# Altium footprint library base-32-bit.PcbLib: 31 footprints (part 2 of 2)
Each footprint in its own frame and in the unit in brackets; x right, y up, seen from the top. Pads: shape width x height; smd on the part's side, far side on the other; paste and mask are expansions set on the pad; w line width, h text height; cw(c..) or ccw(c..) is an arc to the next point about the centre after c.
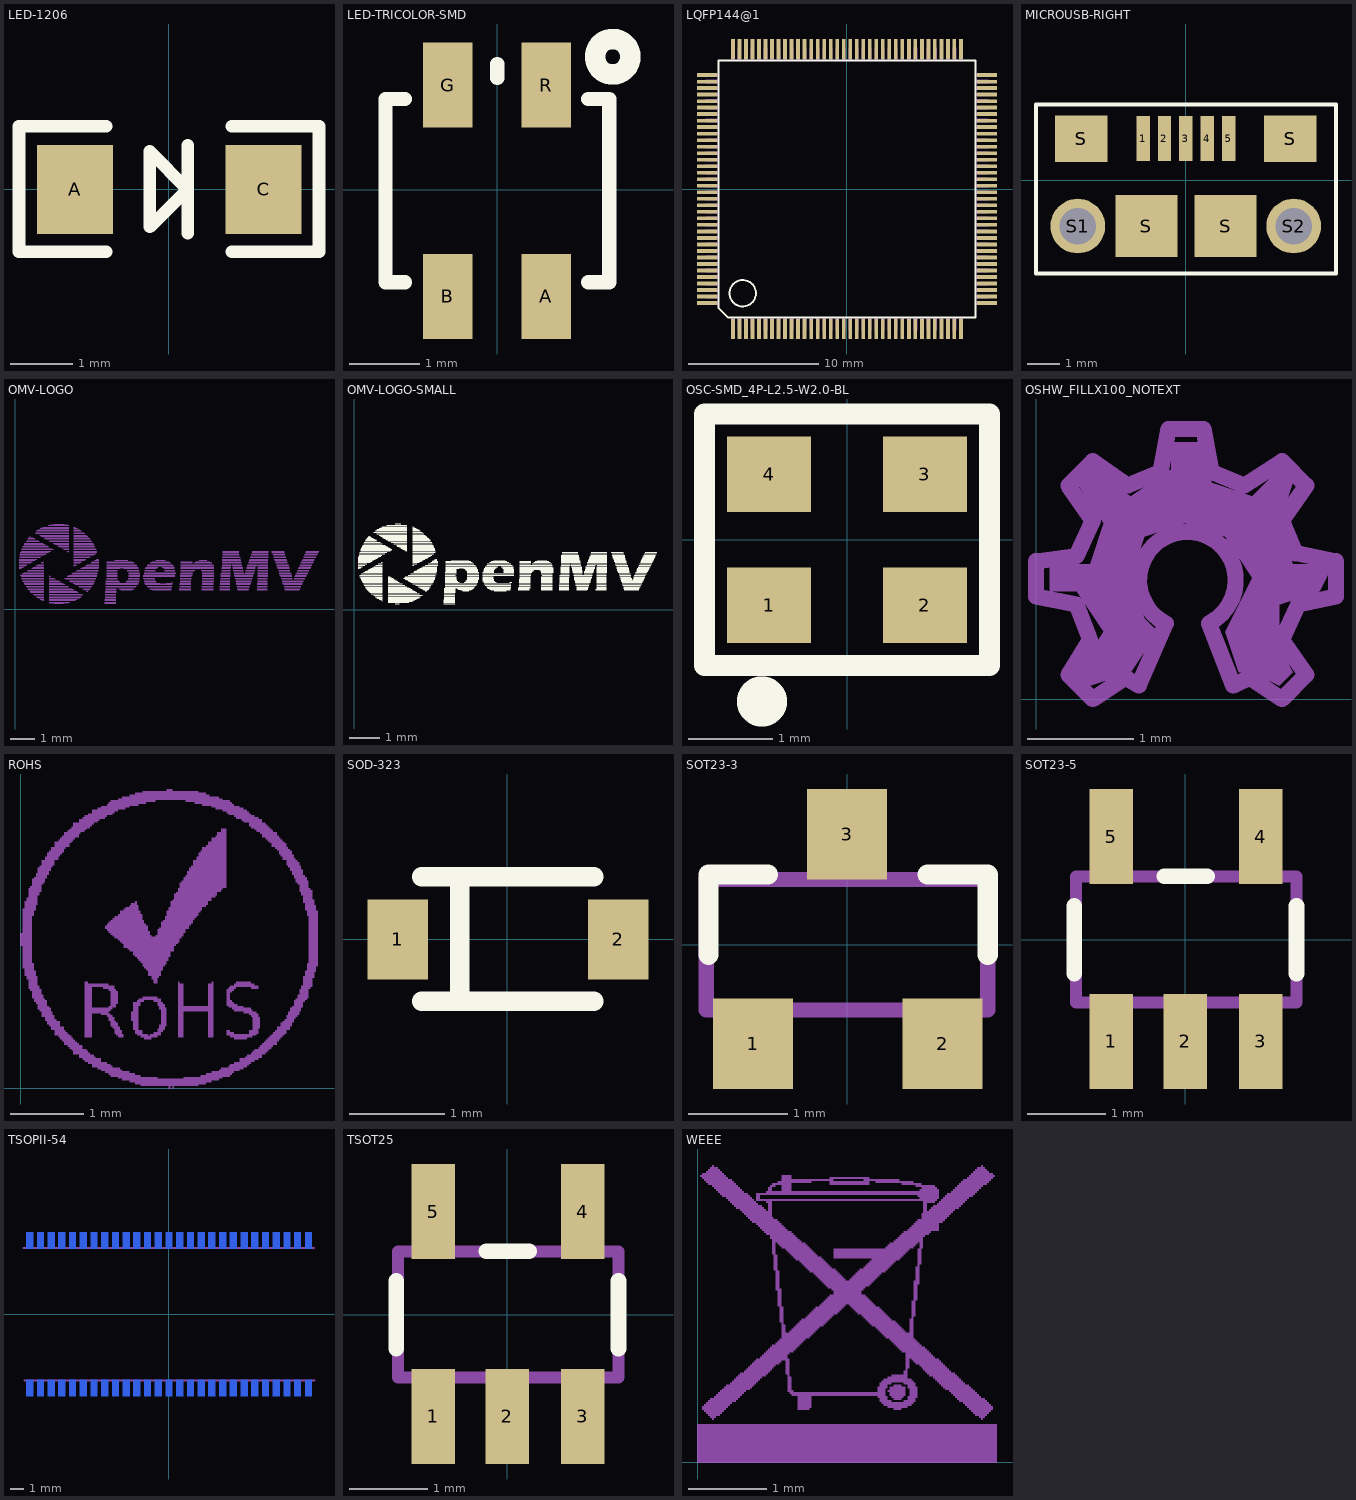
[diagram p1: the footprints below, top view; thin cyan lines are the x and y axes]

## LED-1206 [mil] "LED-1206"
pads (2):
  rect 48x56 smd: A(-59.06,0) C(60,0)
Top Overlay:
  lines w8: -39.37,-39.37 -94.49,-39.37 -94.49,40 -39.37,40 ; 12,-27.56 12,0 ; 12,28 12,0 ; 40,-39.37 95,-39.37 95,40 40,40 ; 12,0 -11.81,-23.62 -11.81,24 12,0

## LED-TRICOLOR-SMD [mil] "LED-TRICOLOR-SMD"
pads (4):
  rect 28x48 smd: A(27.56,-60) B(-28,-60) G(-28,59.06) R(27.56,59.06)
Top Overlay:
  circle w11.55: c65,75 r10
  lines w8: -52,-52 -63,-52 -63,51.18 -52,51.18 ; 0,62.99 0,70.87 ; 51.18,-52 62.99,-52 62.99,51.18 51.18,51.18

## LQFP144@1 [mil] "LQFP144@1"
pads (144):
  rect 11x60 smd: 1(-344.49,-423.23) 2(-324.8,-423.23) 3(-305.12,-423.23) 4(-285.43,-423.23) 5(-265.75,-423.23) 6(-246.06,-423.23) 7(-226.38,-423.23) 8(-206.69,-423.23) 9(-187.01,-423.23) 10(-167.32,-423.23) 11(-147.64,-423.23) 12(-127.95,-423.23) 13(-108.27,-423.23) 14(-88.58,-423.23) 15(-68.9,-423.23) 16(-49.21,-423.23) 17(-29.53,-423.23) 18(-9.84,-423.23) 19(10,-423.23) 20(30,-423.23) 21(50,-423.23) 22(69,-423.23) 23(89,-423.23) 24(109,-423.23) 25(128,-423.23) 26(148,-423.23) 27(168,-423.23) 28(188,-423.23) 29(207,-423.23) 30(227,-423.23) 31(247,-423.23) 32(266,-423.23) 33(286,-423.23) 34(306,-423.23) 35(325,-423.23) 36(345,-423.23) 73(345,424) 74(325,424) 75(306,424) 76(286,424) 77(266,424) 78(247,424) 79(227,424) 80(207,424) 81(188,424) 82(168,424) 83(148,424) 84(128,424) 85(109,424) 86(89,424) 87(69,424) 88(50,424) 89(30,424) 90(10,424) 91(-9.84,424) 92(-29.53,424) 93(-49.21,424) 94(-68.9,424) 95(-88.58,424) 96(-108.27,424) 97(-127.95,424) 98(-147.64,424) 99(-167.32,424) 100(-187.01,424) 101(-206.69,424) 102(-226.38,424) 103(-246.06,424) 104(-265.75,424) 105(-285.43,424) 106(-305.12,424) 107(-324.8,424) 108(-344.49,424)
  rect 60x11 smd: 37(424,-344.49) 38(424,-324.8) 39(424,-305.12) 40(424,-285.43) 41(424,-265.75) 42(424,-246.06) 43(424,-226.38) 44(424,-206.69) 45(424,-187.01) 46(424,-167.32) 47(424,-147.64) 48(424,-127.95) 49(424,-108.27) 50(424,-88.58) 51(424,-68.9) 52(424,-49.21) 53(424,-29.53) 54(424,-9.84) 55(424,10) 56(424,30) 57(424,50) 58(424,69) 59(424,89) 60(424,109) 61(424,128) 62(424,148) 63(424,168) 64(424,188) 65(424,207) 66(424,227) 67(424,247) 68(424,266) 69(424,286) 70(424,306) 71(424,325) 72(424,345) 109(-423.23,345) 110(-423.23,325) 111(-423.23,306) 112(-423.23,286) 113(-423.23,266) 114(-423.23,247) 115(-423.23,227) 116(-423.23,207) 117(-423.23,188) 118(-423.23,168) 119(-423.23,148) 120(-423.23,128) 121(-423.23,109) 122(-423.23,89) 123(-423.23,69) 124(-423.23,50) 125(-423.23,30) 126(-423.23,10) 127(-423.23,-9.84) 128(-423.23,-29.53) 129(-423.23,-49.21) 130(-423.23,-68.9) 131(-423.23,-88.58) 132(-423.23,-108.27) 133(-423.23,-127.95) 134(-423.23,-147.64) 135(-423.23,-167.32) 136(-423.23,-187.01) 137(-423.23,-206.69) 138(-423.23,-226.38) 139(-423.23,-246.06) 140(-423.23,-265.75) 141(-423.23,-285.43) 142(-423.23,-305.12) 143(-423.23,-324.8) 144(-423.23,-344.49)
Top Overlay:
  circle w6: c-314.96,-314.96 r40
  lines w6: -388.7,-359.17 -359.17,-388.7 389,-388.7 389,389 -388.7,389 -388.7,-359.17
Mechanical 16:
  rectangle: -349.8,389 -339.17,429
  rectangle: -330.12,389 -319.49,429
  rectangle: -310.43,389 -299.8,429
  rectangle: -290.75,389 -280.12,429
  rectangle: -271.06,389 -260.43,429
  rectangle: -251.38,389 -240.75,429
  rectangle: -231.69,389 -221.06,429
  rectangle: -212.01,389 -201.38,429
  rectangle: -192.32,389 -181.69,429
  rectangle: -172.64,389 -162.01,429
  rectangle: -152.95,389 -142.32,429
  rectangle: -133.27,389 -122.64,429
  rectangle: -113.58,389 -102.95,429
  rectangle: -93.9,389 -83.27,429
  rectangle: -74.21,389 -63.58,429
  rectangle: -54.53,389 -43.9,429
  rectangle: -34.84,389 -24.21,429
  rectangle: -15.16,389 -4.53,429
  rectangle: 5,389 16,429
  rectangle: 25,389 35,429
  rectangle: 44,389 55,429
  rectangle: 64,389 75,429
  rectangle: 84,389 94,429
  rectangle: 103,389 114,429
  rectangle: 123,389 134,429
  rectangle: 143,389 153,429
  rectangle: 163,389 173,429
  rectangle: 182,389 193,429
  rectangle: 202,389 213,429
  rectangle: 222,389 232,429
  rectangle: 241,389 252,429
  rectangle: 261,389 272,429
  rectangle: 281,389 291,429
  rectangle: 300,389 311,429
  rectangle: 320,389 331,429
  rectangle: 340,389 350,429
  rectangle: -349.8,-428.17 -339.17,-388.7
  rectangle: -330.12,-428.17 -319.49,-388.7
  rectangle: -310.43,-428.17 -299.8,-388.7
  rectangle: -290.75,-428.17 -280.12,-388.7
  rectangle: -271.06,-428.17 -260.43,-388.7
  rectangle: -251.38,-428.17 -240.75,-388.7
  rectangle: -231.69,-428.17 -221.06,-388.7
  rectangle: -212.01,-428.17 -201.38,-388.7
  rectangle: -192.32,-428.17 -181.69,-388.7
  rectangle: -172.64,-428.17 -162.01,-388.7
  rectangle: -152.95,-428.17 -142.32,-388.7
  rectangle: -133.27,-428.17 -122.64,-388.7
  rectangle: -113.58,-428.17 -102.95,-388.7
  rectangle: -93.9,-428.17 -83.27,-388.7
  rectangle: -74.21,-428.17 -63.58,-388.7
  rectangle: -54.53,-428.17 -43.9,-388.7
  rectangle: -34.84,-428.17 -24.21,-388.7
  rectangle: -15.16,-428.17 -4.53,-388.7
  rectangle: 5,-428.17 16,-388.7
  rectangle: 25,-428.17 35,-388.7
  rectangle: 44,-428.17 55,-388.7
  rectangle: 64,-428.17 75,-388.7
  rectangle: 84,-428.17 94,-388.7
  rectangle: 103,-428.17 114,-388.7
  rectangle: 123,-428.17 134,-388.7
  rectangle: 143,-428.17 153,-388.7
  rectangle: 163,-428.17 173,-388.7
  rectangle: 182,-428.17 193,-388.7
  rectangle: 202,-428.17 213,-388.7
  rectangle: 222,-428.17 232,-388.7
  rectangle: 241,-428.17 252,-388.7
  rectangle: 261,-428.17 272,-388.7
  rectangle: 281,-428.17 291,-388.7
  rectangle: 300,-428.17 311,-388.7
  rectangle: 320,-428.17 331,-388.7
  rectangle: 340,-428.17 350,-388.7
  rectangle: 389,-349.8 429,-339.17
  rectangle: 389,-330.12 429,-319.49
  rectangle: 389,-310.43 429,-299.8
  rectangle: 389,-290.75 429,-280.12
  rectangle: 389,-271.06 429,-260.43
  rectangle: 389,-251.38 429,-240.75
  rectangle: 389,-231.69 429,-221.06
  rectangle: 389,-212.01 429,-201.38
  rectangle: 389,-192.32 429,-181.69
  rectangle: 389,-172.64 429,-162.01
  rectangle: 389,-152.95 429,-142.32
  rectangle: 389,-133.27 429,-122.64
  rectangle: 389,-113.58 429,-102.95
  rectangle: 389,-93.9 429,-83.27
  rectangle: 389,-74.21 429,-63.58
  rectangle: 389,-54.53 429,-43.9
  rectangle: 389,-34.84 429,-24.21
  rectangle: 389,-15.16 429,-4.53
  rectangle: 389,5 429,16
  rectangle: 389,25 429,35
  rectangle: 389,44 429,55
  rectangle: 389,64 429,75
  rectangle: 389,84 429,94
  rectangle: 389,103 429,114
  rectangle: 389,123 429,134
  rectangle: 389,143 429,153
  rectangle: 389,163 429,173
  rectangle: 389,182 429,193
  rectangle: 389,202 429,213
  rectangle: 389,222 429,232
  rectangle: 389,241 429,252
  rectangle: 389,261 429,272
  rectangle: 389,281 429,291
  rectangle: 389,300 429,311
  rectangle: 389,320 429,331
  rectangle: 389,340 429,350
  rectangle: -428.07,-349.8 -388.6,-339.17
  rectangle: -428.07,-330.12 -388.6,-319.49
  rectangle: -428.07,-310.43 -388.6,-299.8
  rectangle: -428.07,-290.75 -388.6,-280.12
  rectangle: -428.07,-271.06 -388.6,-260.43
  rectangle: -428.07,-251.38 -388.6,-240.75
  rectangle: -428.07,-231.69 -388.6,-221.06
  rectangle: -428.07,-212.01 -388.6,-201.38
  rectangle: -428.07,-192.32 -388.6,-181.69
  rectangle: -428.07,-172.64 -388.6,-162.01
  rectangle: -428.07,-152.95 -388.6,-142.32
  rectangle: -428.07,-133.27 -388.6,-122.64
  rectangle: -428.07,-113.58 -388.6,-102.95
  rectangle: -428.07,-93.9 -388.6,-83.27
  rectangle: -428.07,-74.21 -388.6,-63.58
  rectangle: -428.07,-54.53 -388.6,-43.9
  rectangle: -428.07,-34.84 -388.6,-24.21
  rectangle: -428.07,-15.16 -388.6,-4.53
  rectangle: -428.07,5 -388.6,16
  rectangle: -428.07,25 -388.6,35
  rectangle: -428.07,44 -388.6,55
  rectangle: -428.07,64 -388.6,75
  rectangle: -428.07,84 -388.6,94
  rectangle: -428.07,103 -388.6,114
  rectangle: -428.07,123 -388.6,134
  rectangle: -428.07,143 -388.6,153
  rectangle: -428.07,163 -388.6,173
  rectangle: -428.07,182 -388.6,193
  rectangle: -428.07,202 -388.6,213
  rectangle: -428.07,222 -388.6,232
  rectangle: -428.07,241 -388.6,252
  rectangle: -428.07,261 -388.6,272
  rectangle: -428.07,281 -388.6,291
  rectangle: -428.07,300 -388.6,311
  rectangle: -428.07,320 -388.6,331
  rectangle: -428.07,340 -388.6,350

## MICROUSB-RIGHT [mil] "MICROUSB-RIGHT"
pads (11):
  rect 16x54 smd: 1(-51.18,50) 2(-25.59,50) 3(0,50) 4(26,50) 5(52,50)
  rect 63x56 smd: S(-125.98,50) S(126,50)
  rect 75x75 smd: S(-47.24,-55.31) S(48,-55.31)
  round 66 hole 44: S1(-129.92,-55.31) S2(130,-55.31)
Top Overlay:
  lines w5: -180.31,-112.4 -180.31,91 181,91 181,-112.4 -180.31,-112.4

## OMV-LOGO [mil] "OMV-LOGO"
Bottom Overlay:
  drawing of 881 lines, arcs and shapes, not listed

## OMV-LOGO-SMALL [mil] "OMV-LOGO-SMALL"
Top Overlay:
  drawing of 701 lines, arcs and shapes, not listed

## OSC-SMD_4P-L2.5-W2.0-BL [mm]
pads (4):
  rect 1x0.9 smd: 1(-0.93,-0.78) 2(0.93,-0.78) 3(0.93,0.78) 4(-0.93,0.78)
Top Overlay:
  lines w0.254: -1.7,-1.5 -1.7,1.5 1.7,1.5 1.7,-1.5 -1.7,-1.5
  lines w0.3: -1.016,-1.778 ccw(c-1.015,-1.928) -1.013,-1.778

## OSHW_FILLX100_NOTEXT [mil] "OSHW_FILLX100_NOTEXT"
Bottom Overlay:
  region: 35,10 20,5 15,10 25,25 15,40 5,40 5,50 20,50 25,65 15,80 20,85 35,75 50,85 50,95 60,95 65,80 80,75 90,85 95,80 90,65 95,50 110,50 105,40 90,35 90,20 95,10 90,5 80,10 75,10 70,25 80,45 70,60 55,65 40,60 35,45 40,30 45,25
  lines w6: 0,38 0,51 15,53 21,66 12,79 21,88 34,79 46,84 49,100 62,100 65,84 77,79 91,88 100,79 91,66 96,54 111,51 111,38 97,35 91,22 100,9 91,0 79,8 73,5 64,28 ccw(c56,44) 48,28 38,5 33,8 21,0 12,9 20,22 15,35 0,38

## ROHS [mil] "ROHS"
Bottom Overlay:
  drawing of 599 lines, arcs and shapes, not listed

## SOD-323 [mil] "SOD-323"
pads (2):
  rect 25x33 smd: 1(-45.28,0) 2(46,0)
Top Overlay:
  lines w8: -35.43,-25.59 -19.68,-25.59 ; -35.43,26 -19.68,26 ; 36,-25.59 -19.68,-25.59 ; 36,26 -19.68,26 ; -19.68,-25.59 -19.68,26

## SOT23-3 [mil] "SOT23-3"
pads (3):
  rect 32x36 smd: 1(-37.4,-39.37) 2(38,-39.37) 3(0,44)
Top Overlay:
  lines w8: -55.12,-3.94 -55.12,28 -31.5,28 ; 32,28 56,28 56,-3.94
Mechanical 16:
  lines w6: -56,-26 56,-26 56,26 -56,26 -56,-26

## SOT23-5 [mil] "SOT23-5"
pads (5):
  rect 22x48 smd: 1(-37.4,-51.19) 2(0,-51.19) 3(38,-51.19) 4(38,52) 5(-37.4,52)
Top Overlay:
  lines w8: -56,-16.91 -56,17 ; -10.57,32 11,32 ; 56,-16.91 56,17
Mechanical 16:
  rectangle: -47.24,-59.06 -27.56,-33.46
  rectangle: -9.84,-59.06 10,-33.46
  rectangle: 28,-59.06 48,-33.46
  rectangle: 28,34 48,60
  rectangle: -47.24,34 -27.56,60
  lines w6: -55.12,-31.5 56,-31.5 56,32 -55.12,32 -55.12,-31.5

## TSOPII-54 [mil] "TSOPII-54"
pads (54):
  rect 20x48 smd far side: 1(-409.45,-216.62) 2(-377.95,-216.62) 3(-346.46,-216.62) 4(-314.96,-216.62) 5(-283.46,-216.62) 6(-251.97,-216.62) 7(-220.47,-216.62) 8(-188.98,-216.62) 9(-157.48,-216.62) 10(-125.98,-216.62) 11(-94.49,-216.62) 12(-62.99,-216.62) 13(-31.5,-216.62) 14(0,-216.62) 15(32,-216.62) 16(63,-216.62) 17(95,-216.62) 18(126,-216.62) 19(158,-216.62) 20(189,-216.62) 21(221,-216.62) 22(252,-216.62) 23(284,-216.62) 24(315,-216.62) 25(347,-216.62) 26(378,-216.62) 27(410,-216.62) 28(410,217) 29(378,217) 30(347,217) 31(315,217) 32(284,217) 33(252,217) 34(221,217) 35(189,217) 36(158,217) 37(126,217) 38(95,217) 39(63,217) 40(32,217) 41(0,217) 42(-31.5,217) 43(-62.99,217) 44(-94.49,217) 45(-125.98,217) 46(-157.48,217) 47(-188.98,217) 48(-220.47,217) 49(-251.97,217) 50(-283.46,217) 51(-314.96,217) 52(-346.46,217) 53(-377.95,217) 54(-409.45,217)
Bottom Overlay:
  circle w6: c-396.26,-154.92 r21
  lines w6: -428.15,195 -440.94,195 -440.94,-194.88 -425.2,-194.88 ; 426,195 441,195 441,-194.88 428,-194.88
Top Paste:
  rectangle: -418.31,-238.19 -400.59,-193.9
  rectangle: -386.81,-238.19 -369.09,-193.9
  rectangle: -355.31,-238.19 -337.6,-193.9
  rectangle: -323.82,-238.19 -306.1,-193.9
  rectangle: -292.32,-238.19 -274.61,-193.9
  rectangle: -260.83,-238.19 -243.11,-193.9
  rectangle: -229.33,-238.19 -211.61,-193.9
  rectangle: -197.83,-238.19 -180.12,-193.9
  rectangle: -166.34,-238.19 -148.62,-193.9
  rectangle: -134.84,-238.19 -117.13,-193.9
  rectangle: -103.35,-238.19 -85.63,-193.9
  rectangle: -71.85,-238.19 -54.13,-193.9
  rectangle: -40.35,-238.19 -22.64,-193.9
  rectangle: -8.86,-238.19 9,-193.9
  rectangle: 23,-238.19 41,-193.9
  rectangle: 55,-238.19 72,-193.9
  rectangle: 86,-238.19 104,-193.9
  rectangle: 118,-238.19 135,-193.9
  rectangle: 149,-238.19 167,-193.9
  rectangle: 181,-238.19 198,-193.9
  rectangle: 212,-238.19 230,-193.9
  rectangle: 244,-238.19 261,-193.9
  rectangle: 275,-238.19 293,-193.9
  rectangle: 307,-238.19 324,-193.9
  rectangle: 338,-238.19 356,-193.9
  rectangle: 370,-238.19 387,-193.9
  rectangle: 401,-238.19 419,-193.9
  region: 419,239 401,239 401,194 419,194
  region: 387,239 370,239 370,194 387,194
  region: 356,239 338,239 338,194 356,194
  region: 324,239 307,239 307,194 324,194
  region: 293,239 275,239 275,194 293,194
  region: 261,239 244,239 244,194 261,194
  region: 230,239 212,239 212,194 230,194
  region: 198,239 181,239 181,194 198,194
  region: 167,239 149,239 149,194 167,194
  region: 135,239 118,239 118,194 135,194
  region: 104,239 86,239 86,194 104,194
  region: 72,239 55,239 55,194 72,194
  region: 41,239 23,239 23,194 41,194
  region: 9,239 -8.86,239 -8.86,194 9,194
  region: -22.64,239 -40.35,239 -40.35,194 -22.64,194
  region: -54.13,239 -71.85,239 -71.85,194 -54.13,194
  region: -85.64,239 -103.36,239 -103.36,194 -85.64,194
  region: -117.13,239 -134.84,239 -134.84,194 -117.13,194
  region: -148.62,239 -166.34,239 -166.34,194 -148.62,194
  region: -180.12,239 -197.83,239 -197.83,194 -180.12,194
  region: -211.61,239 -229.33,239 -229.33,194 -211.61,194
  region: -243.11,239 -260.83,239 -260.83,194 -243.11,194
  region: -274.61,239 -292.32,239 -292.32,194 -274.61,194
  region: -306.1,239 -323.82,239 -323.82,194 -306.1,194
  region: -337.6,239 -355.31,239 -355.31,194 -337.6,194
  region: -369.09,239 -386.81,239 -386.81,194 -369.09,194
  region: -400.59,239 -418.31,239 -418.31,194 -400.59,194
Top Solder:
  rectangle: -422.24,-243.11 -396.65,-190.94
  rectangle: -390.75,-243.11 -365.16,-190.94
  rectangle: -359.25,-243.11 -333.66,-190.94
  rectangle: -327.76,-243.11 -302.17,-190.94
  rectangle: -296.26,-243.11 -270.67,-190.94
  rectangle: -264.76,-243.11 -239.17,-190.94
  rectangle: -233.27,-243.11 -207.68,-190.94
  rectangle: -201.77,-243.11 -176.18,-190.94
  rectangle: -170.28,-243.11 -144.68,-190.94
  rectangle: -138.78,-243.11 -113.19,-190.94
  rectangle: -107.28,-243.11 -81.69,-190.94
  rectangle: -75.79,-243.11 -50.2,-190.94
  rectangle: -44.29,-243.11 -18.7,-190.94
  rectangle: -12.8,-243.11 13,-190.94
  rectangle: 19,-243.11 45,-190.94
  rectangle: 51,-243.11 76,-190.94
  rectangle: 82,-243.11 108,-190.94
  rectangle: 114,-243.11 139,-190.94
  rectangle: 145,-243.11 171,-190.94
  rectangle: 177,-243.11 202,-190.94
  rectangle: 208,-243.11 234,-190.94
  rectangle: 240,-243.11 265,-190.94
  rectangle: 271,-243.11 297,-190.94
  rectangle: 303,-243.11 328,-190.94
  rectangle: 334,-243.11 360,-190.94
  rectangle: 366,-243.11 391,-190.94
  rectangle: 397,-243.11 423,-190.94
  region: 423,244 397,244 397,191 423,191
  region: 391,244 366,244 366,191 391,191
  region: 360,244 334,244 334,191 360,191
  region: 328,244 303,244 303,191 328,191
  region: 297,244 271,244 271,191 297,191
  region: 265,244 240,244 240,191 265,191
  region: 234,244 208,244 208,191 234,191
  region: 202,244 177,244 177,191 202,191
  region: 171,244 145,244 145,191 171,191
  region: 139,244 114,244 114,191 139,191
  region: 108,244 82,244 82,191 108,191
  region: 76,244 51,244 51,191 76,191
  region: 45,244 19,244 19,191 45,191
  region: 13,244 -12.8,244 -12.8,191 13,191
  region: -18.7,244 -44.29,244 -44.29,191 -18.7,191
  region: -50.2,244 -75.79,244 -75.79,191 -50.2,191
  region: -81.7,244 -107.29,244 -107.29,191 -81.7,191
  region: -113.19,244 -138.78,244 -138.78,191 -113.19,191
  region: -144.69,244 -170.28,244 -170.28,191 -144.69,191
  region: -176.19,244 -201.78,244 -201.78,191 -176.19,191
  region: -207.68,244 -233.27,244 -233.27,191 -207.68,191
  region: -239.17,244 -264.76,244 -264.76,191 -239.17,191
  region: -270.67,244 -296.26,244 -296.26,191 -270.67,191
  region: -302.17,244 -327.76,244 -327.76,191 -302.17,191
  region: -333.66,244 -359.25,244 -359.25,191 -333.66,191
  region: -365.16,244 -390.75,244 -390.75,191 -365.16,191
  region: -396.66,244 -422.25,244 -422.25,191 -396.66,191
Mechanical 16:
  rectangle: -418.31,-230.83 -400.59,-195.87
  rectangle: -386.81,-230.83 -369.09,-195.87
  rectangle: -355.31,-230.83 -337.6,-195.87
  rectangle: -323.82,-230.83 -306.1,-195.87
  rectangle: -292.32,-230.83 -274.61,-195.87
  rectangle: -260.83,-230.83 -243.11,-195.87
  rectangle: -229.33,-230.83 -211.61,-195.87
  rectangle: -197.83,-230.83 -180.12,-195.87
  rectangle: -166.34,-230.83 -148.62,-195.87
  rectangle: -134.84,-230.83 -117.13,-195.87
  rectangle: -103.35,-230.83 -85.63,-195.87
  rectangle: -71.85,-230.83 -54.13,-195.87
  rectangle: -40.35,-230.83 -22.64,-195.87
  rectangle: -8.86,-230.83 9,-195.87
  rectangle: 23,-230.83 41,-195.87
  rectangle: 55,-230.83 72,-195.87
  rectangle: 86,-230.83 104,-195.87
  rectangle: 118,-230.83 135,-195.87
  rectangle: 149,-230.83 167,-195.87
  rectangle: 181,-230.83 198,-195.87
  rectangle: 212,-230.83 230,-195.87
  rectangle: 244,-230.83 261,-195.87
  rectangle: 275,-230.83 293,-195.87
  rectangle: 307,-230.83 324,-195.87
  rectangle: 338,-230.83 356,-195.87
  rectangle: 370,-230.83 387,-195.87
  rectangle: 401,-230.83 419,-195.87
  region: 419,231 401,231 401,196 419,196
  region: 387,231 370,231 370,196 387,196
  region: 356,231 338,231 338,196 356,196
  region: 324,231 307,231 307,196 324,196
  region: 293,231 275,231 275,196 293,196
  region: 261,231 244,231 244,196 261,196
  region: 230,231 212,231 212,196 230,196
  region: 198,231 181,231 181,196 198,196
  region: 167,231 149,231 149,196 167,196
  region: 135,231 118,231 118,196 135,196
  region: 104,231 86,231 86,196 104,196
  region: 72,231 55,231 55,196 72,196
  region: 41,231 23,231 23,196 41,196
  region: 9,231 -8.86,231 -8.86,196 9,196
  region: -22.64,231 -40.35,231 -40.35,196 -22.64,196
  region: -54.13,231 -71.85,231 -71.85,196 -54.13,196
  region: -85.64,231 -103.36,231 -103.36,196 -85.64,196
  region: -117.13,231 -134.84,231 -134.84,196 -117.13,196
  region: -148.62,231 -166.34,231 -166.34,196 -148.62,196
  region: -180.12,231 -197.83,231 -197.83,196 -180.12,196
  region: -211.61,231 -229.33,231 -229.33,196 -211.61,196
  region: -243.11,231 -260.83,231 -260.83,196 -243.11,196
  region: -274.61,231 -292.32,231 -292.32,196 -274.61,196
  region: -306.1,231 -323.82,231 -323.82,196 -306.1,196
  region: -337.6,231 -355.31,231 -355.31,196 -337.6,196
  region: -369.09,231 -386.81,231 -386.81,196 -369.09,196
  region: -400.59,231 -418.31,231 -418.31,196 -400.59,196
  lines w6: -427.17,195 426,195 ; -425.2,-194.88 428,-194.88

## TSOT25 [mil] "TSOT25"
pads (5):
  rect 22x48 smd: 1(-37.4,-51.19) 2(0,-51.19) 3(38,-51.19) 4(38,52) 5(-37.4,52)
Top Overlay:
  lines w8: -56,-16.91 -56,17 ; -10.57,32 11,32 ; 56,-16.91 56,17
Mechanical 16:
  rectangle: -47.24,34 -27.56,60
  rectangle: 28,34 48,60
  rectangle: 28,-59.06 48,-33.46
  rectangle: -9.84,-59.06 10,-33.46
  rectangle: -47.24,-59.06 -27.56,-33.46
  lines w6: -55.12,-31.5 -55.12,32 56,32 56,-31.5 -55.12,-31.5

## WEEE [mil] "WEEE"
Bottom Overlay:
  drawing of 457 lines, arcs and shapes, not listed